# Altium footprint library SparkFun-Connectors.PCBLIB: 305 footprints (part 14 of 20)
Each footprint in its own frame and in the unit in brackets; x right, y up, seen from the top. Pads: shape width x height; smd on the part's side, far side on the other; paste and mask are expansions set on the pad; w line width, h text height; cw(c..) or ccw(c..) is an arc to the next point about the centre after c.
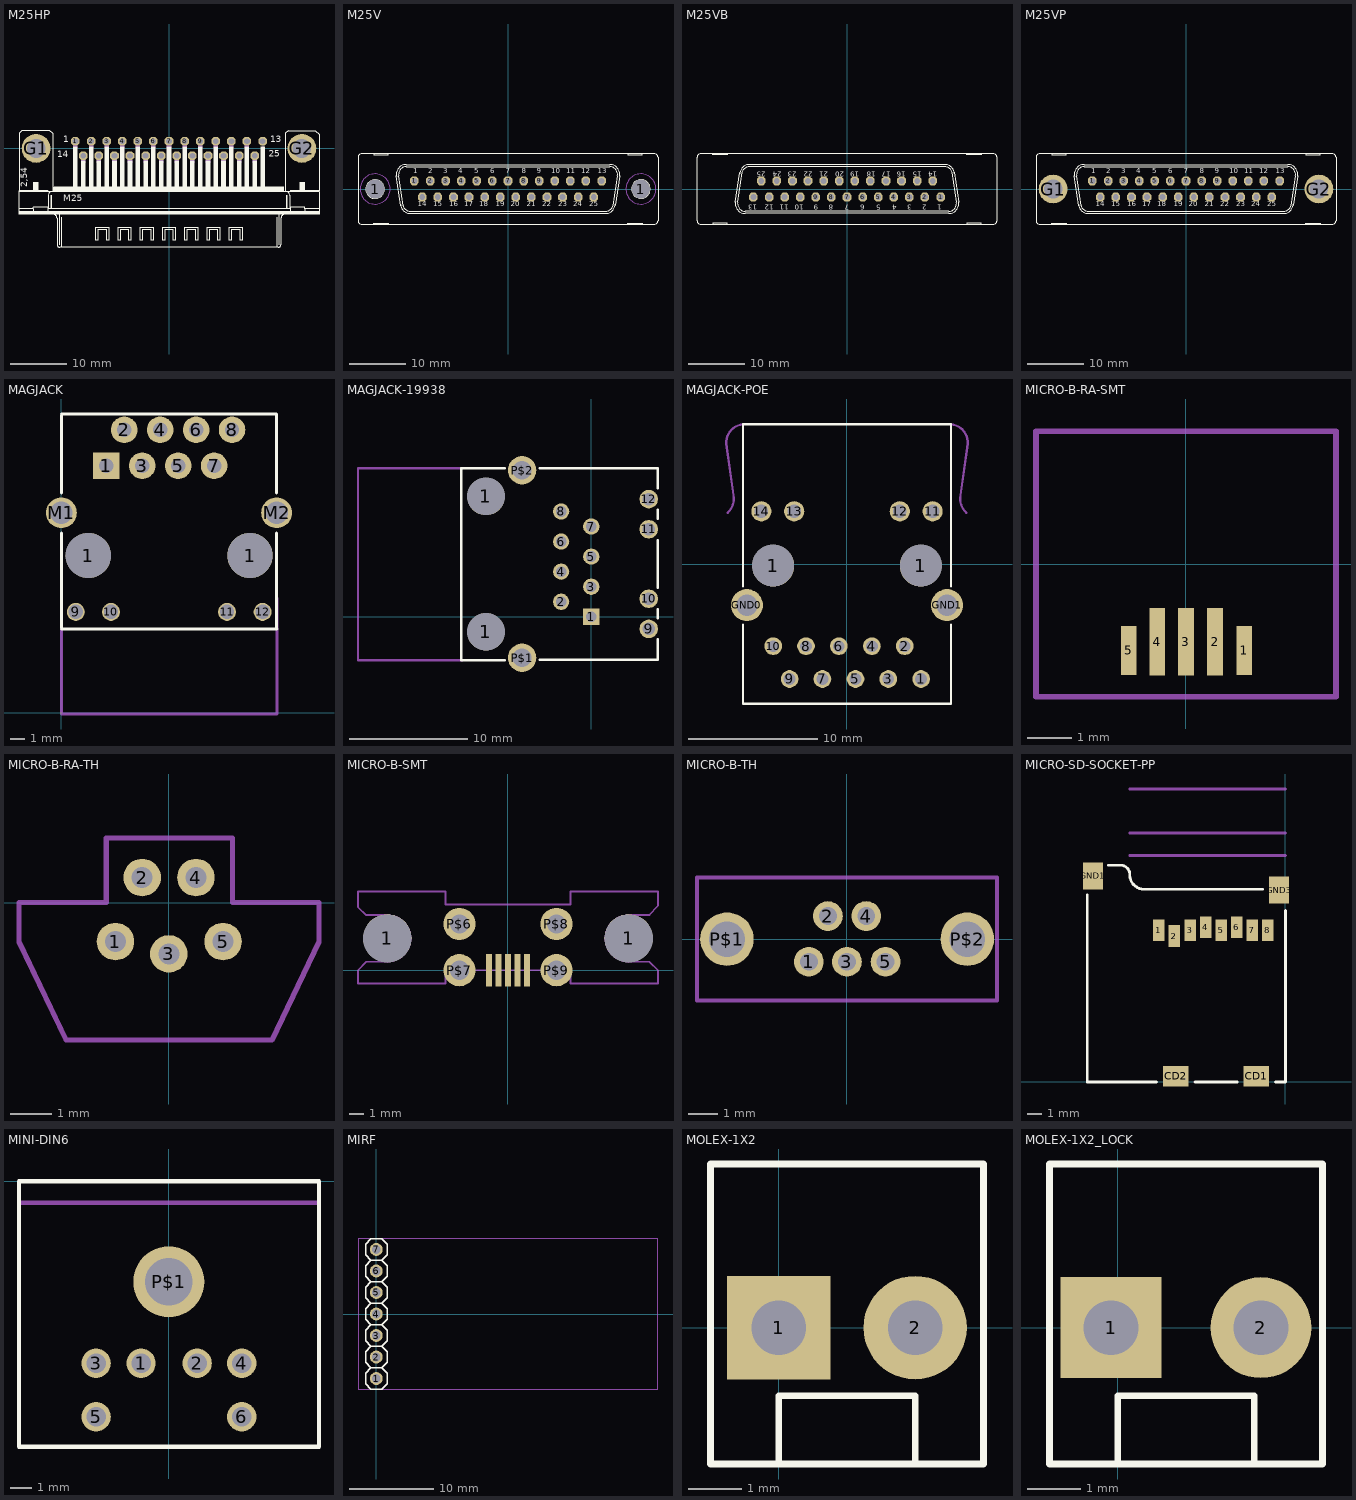
[diagram p13: the footprints below, top view; thin cyan lines are the x and y axes]

## M25HP [mil]
pads (27):
  oct 60x60 hole 40: 1(-652,50) 2(-543,50) 3(-435,50) 4(-326,50) 5(-217,50) 6(-109,50) 7(0,50) 8(109,50) 9(217,50) 10(326,50) 11(435,50) 12(543,50) 13(652,50) 14(-598,-50) 15(-489,-50) 16(-380,-50) 17(-272,-50) 18(-163,-50) 19(-54,-50) 20(54,-50) 21(163,-50) 22(272,-50) 23(380,-50) 24(489,-50) 25(598,-50)
  round 200 hole 130: G1(-926,0) G2(926,0)
Top Overlay:
  drawing of 161 lines, arcs and shapes, not listed
  text "1" at -735,25 h77.5
  text "13" at 705,25 h77.5
  text "14" at -780,-80 h77.5
  text "25" at 695,-75 h77.5
  text "2,54" at -970,-270 h77.5
  text "M25" at -735,-385 h77.5
Mechanical 16:
  lines w6: 652,5 652,45
  lines w32: -652,5 -652,45 ; -598,-94 -598,-54 ; -543,5 -543,45 ; -489,-94 -489,-54 ; -435,5 -435,45 ; -380,-94 -380,-54 ; -326,5 -326,45 ; -272,-95 -272,-55 ; -217,5 -217,45 ; -163,-95 -163,-55 ; -109,5 -109,45 ; -54,-95 -54,-55 ; 0,5 0,45 ; 54,-95 54,-55 ; 109,5 109,45 ; 163,-95 163,-55 ; 217,5 217,45 ; 272,-95 272,-55 ; 326,5 326,45 ; 380,-95 380,-55 ; 435,5 435,45 ; 489,-95 489,-55 ; 543,5 543,45 ; 598,-95 598,-55

## M25V [mil]
pads (27):
  round 130 hole 130: 1(-926,0) 1(926,0)
  oct 60x60 hole 40: 1(-652,56) 2(-543,56) 3(-435,56) 4(-326,56) 5(-217,56) 6(-109,56) 7(0,56) 8(109,56) 9(217,56) 10(326,56) 11(435,56) 12(543,56) 13(652,56) 14(-598,-56) 15(-489,-56) 16(-380,-56) 17(-272,-56) 18(-163,-56) 19(-54,-56) 20(54,-56) 21(163,-56) 22(272,-56) 23(380,-56) 24(489,-56) 25(598,-56)
Top Overlay:
  circle w6: c-926,-1 r65
  circle w6: c926,0 r65
  lines w6: -777,92 -746,-116 ; -776.68,89 cw(c-710.14,102.17) -710,170 710,170 cw(c710.29,102.03) 777,89 ; -762,92 -731,-116 ; -761.97,92 cw(c-710.16,102.2) -710,155 710,155 cw(c710.22,102.06) 762,91 731,-115 ; -747.4,-110.99 ccw(c-680,-102) -680,-170 680,-170 ccw(c680.04,-101.94) 748,-105.7 ; -731.3,-115.33 ccw(c-680,-102) -680,-155 680,-155 ccw(c680.23,-101.7) 732,-114.37 ; 747,-113 777,91 ; -935,-245 -935,-240 -835,-240 -835,-245 ; -935,-245 -835,-245 ; -935,-245 -1020,-245 cw(c-1020,-220) -1045,-220 -1045,220 cw(c-1020,220) -1020,245 -935,245 ; -935,245 -935,240 -835,240 -835,245 ; -935,245 -835,245 ; -835,-245 835,-245 ; -835,245 835,245 ; 835,-245 835,-240 935,-240 935,-245 ; 835,-245 935,-245 ; 835,245 835,240 935,240 935,245 ; 835,245 935,245 ; 935,-245 1020,-245 ccw(c1020,-220) 1045,-220 1045,220 ccw(c1020,220) 1020,245 935,245
  text "1" at -660,95 h60.45
  text "2" at -555,95 h60.45
  text "3" at -450,95 h60.45
  text "4" at -345,95 h60.45
  text "5" at -235,95 h60.45
  text "6" at -125,95 h60.45
  text "7" at -15,95 h60.45
  text "8" at 95,95 h60.45
  text "9" at 200,95 h60.45
  text "10" at 300,95 h60.45
  text "11" at 405,95 h60.45
  text "12" at 510,95 h60.45
  text "13" at 625,95 h60.45
  text "14" at -630,-135 h60.45
  text "15" at -520,-135 h60.45
  text "16" at -410,-135 h60.45
  text "17" at -305,-135 h60.45
  text "18" at -200,-135 h60.45
  text "19" at -85,-135 h60.45
  text "20" at 20,-135 h60.45
  text "21" at 130,-135 h60.45
  text "22" at 240,-135 h60.45
  text "23" at 350,-135 h60.45
  text "24" at 455,-135 h60.45
  text "25" at 565,-135 h60.45
Mechanical 9:
  circle w0: c926,0 r105
  circle w0: c-926,0 r105
Mechanical 10:
  circle w0: c926,0 r105
  circle w0: c-926,0 r105
Mechanical 16:
  circle w16: c-109,56 r10
  circle w16: c-163,-56 r10
  circle w16: c-217,56 r10
  circle w16: c0,56 r10
  circle w16: c-54,-56 r10
  circle w16: c54,-56 r10
  circle w16: c109,56 r10
  circle w16: c217,56 r10
  circle w16: c163,-56 r10
  circle w16: c272,-56 r10
  circle w16: c326,56 r10
  circle w16: c380,-56 r10
  circle w16: c435,56 r10
  circle w16: c489,-56 r10
  circle w16: c543,56 r10
  circle w16: c652,56 r10
  circle w16: c598,-56 r10
  circle w16: c-326,56 r10
  circle w16: c-272,-56 r10
  circle w16: c-380,-56 r10
  circle w16: c-435,56 r10
  circle w16: c-543,56 r10
  circle w16: c-652,56 r10
  circle w16: c-489,-56 r10
  circle w16: c-598,-56 r10

## M25VB [mil]
pads (25):
  oct 60x60 hole 40: 1(652,-56) 2(543,-56) 3(435,-56) 4(326,-56) 5(217,-56) 6(109,-56) 7(0,-56) 8(-109,-56) 9(-217,-56) 10(-326,-56) 11(-435,-56) 12(-543,-56) 13(-652,-56) 14(598,56) 15(489,56) 16(380,56) 17(272,56) 18(163,56) 19(54,56) 20(-54,56) 21(-163,56) 22(-272,56) 23(-380,56) 24(-489,56) 25(-598,56)
Top Overlay:
  lines w6: -777,-91 -747,113 ; -776.69,-88.67 ccw(c-710,-101.99) -710,-170 710,-170 ccw(c710.16,-101.87) 777,-88.67 ; -762,-91 -731,115 ; -761.79,-90.7 ccw(c-710,-101.99) -710,-155 710,-155 ccw(c710.01,-101.99) 762,-91.61 ; -747.89,106 cw(c-680.14,102.15) -680,170 680,170 cw(c680.3,101.66) 748,111 ; -731.52,115 cw(c-680.39,102.31) -680,155 680,155 cw(c680.78,101.88) 732,116 ; 731,116 762,-92 ; 746,116 777,-92 ; -935,-245 -1020,-245 cw(c-1020,-220) -1045,-220 -1045,220 cw(c-1020,220) -1020,245 -935,245 ; -935,-245 -935,-240 -835,-240 -835,-245 ; -935,-245 -835,-245 ; -935,245 -835,245 ; -935,245 -935,240 -835,240 -835,245 ; -835,-245 835,-245 ; -835,245 835,245 ; 835,-245 835,-240 935,-240 935,-245 ; 835,-245 935,-245 ; 835,245 935,245 ; 835,245 835,240 935,240 935,245 ; 935,-245 1020,-245 ccw(c1020,-220) 1045,-220 1045,220 ccw(c1020,220) 1020,245 935,245
  text "1" at 660,-95 h60.45
  text "2" at 555,-95 h60.45
  text "3" at 450,-95 h60.45
  text "4" at 345,-95 h60.45
  text "5" at 235,-95 h60.45
  text "6" at 125,-95 h60.45
  text "7" at 15,-95 h60.45
  text "8" at -95,-95 h60.45
  text "9" at -200,-95 h60.45
  text "10" at -300,-95 h60.45
  text "11" at -405,-95 h60.45
  text "12" at -510,-95 h60.45
  text "13" at -625,-95 h60.45
  text "14" at 630,135 h60.45
  text "15" at 520,135 h60.45
  text "16" at 410,135 h60.45
  text "17" at 305,135 h60.45
  text "18" at 200,135 h60.45
  text "19" at 85,135 h60.45
  text "20" at -20,135 h60.45
  text "21" at -130,135 h60.45
  text "22" at -240,135 h60.45
  text "23" at -350,135 h60.45
  text "24" at -455,135 h60.45
  text "25" at -565,135 h60.45
Mechanical 16:
  circle w16: c109,-56 r10
  circle w16: c163,56 r10
  circle w16: c217,-56 r10
  circle w16: c0,-56 r10
  circle w16: c54,56 r10
  circle w16: c-54,56 r10
  circle w16: c-109,-56 r10
  circle w16: c-217,-56 r10
  circle w16: c-163,56 r10
  circle w16: c-272,56 r10
  circle w16: c-326,-56 r10
  circle w16: c-380,56 r10
  circle w16: c-435,-56 r10
  circle w16: c-489,56 r10
  circle w16: c-543,-56 r10
  circle w16: c-652,-56 r10
  circle w16: c-598,56 r10
  circle w16: c326,-56 r10
  circle w16: c272,56 r10
  circle w16: c380,56 r10
  circle w16: c435,-56 r10
  circle w16: c543,-56 r10
  circle w16: c652,-56 r10
  circle w16: c489,56 r10
  circle w16: c598,56 r10

## M25VP [mil]
pads (27):
  oct 60x60 hole 40: 1(-652,56) 2(-543,56) 3(-435,56) 4(-326,56) 5(-217,56) 6(-109,56) 7(0,56) 8(109,56) 9(217,56) 10(326,56) 11(435,56) 12(543,56) 13(652,56) 14(-598,-56) 15(-489,-56) 16(-380,-56) 17(-272,-56) 18(-163,-56) 19(-54,-56) 20(54,-56) 21(163,-56) 22(272,-56) 23(380,-56) 24(489,-56) 25(598,-56)
  round 200 hole 130: G1(-926,0) G2(926,0)
Top Overlay:
  circle w6: c-926,-1 r65
  circle w6: c926,0 r65
  lines w6: -777,92 -746,-116 ; -776.68,89 cw(c-710.14,102.17) -710,170 710,170 cw(c710.29,102.03) 777,89 ; -762,92 -731,-116 ; -761.97,92 cw(c-710.16,102.2) -710,155 710,155 cw(c710.22,102.06) 762,91 731,-115 ; -747.4,-110.99 ccw(c-680,-102) -680,-170 680,-170 ccw(c680.04,-101.94) 748,-105.7 ; -731.3,-115.33 ccw(c-680,-102) -680,-155 680,-155 ccw(c680.23,-101.7) 732,-114.37 ; 747,-113 777,91 ; -935,-245 -935,-240 -835,-240 -835,-245 ; -935,-245 -835,-245 ; -935,-245 -1020,-245 cw(c-1020,-220) -1045,-220 -1045,220 cw(c-1020,220) -1020,245 -935,245 ; -935,245 -935,240 -835,240 -835,245 ; -935,245 -835,245 ; -835,-245 835,-245 ; -835,245 835,245 ; 835,-245 835,-240 935,-240 935,-245 ; 835,-245 935,-245 ; 835,245 835,240 935,240 935,245 ; 835,245 935,245 ; 935,-245 1020,-245 ccw(c1020,-220) 1045,-220 1045,220 ccw(c1020,220) 1020,245 935,245
  text "1" at -660,95 h60.45
  text "2" at -555,95 h60.45
  text "3" at -450,95 h60.45
  text "4" at -345,95 h60.45
  text "5" at -235,95 h60.45
  text "6" at -125,95 h60.45
  text "7" at -15,95 h60.45
  text "8" at 95,95 h60.45
  text "9" at 200,95 h60.45
  text "10" at 300,95 h60.45
  text "11" at 405,95 h60.45
  text "12" at 510,95 h60.45
  text "13" at 625,95 h60.45
  text "14" at -630,-135 h60.45
  text "15" at -520,-135 h60.45
  text "16" at -410,-135 h60.45
  text "17" at -305,-135 h60.45
  text "18" at -200,-135 h60.45
  text "19" at -85,-135 h60.45
  text "20" at 20,-135 h60.45
  text "21" at 130,-135 h60.45
  text "22" at 240,-135 h60.45
  text "23" at 350,-135 h60.45
  text "24" at 455,-135 h60.45
  text "25" at 565,-135 h60.45
Mechanical 16:
  circle w16: c-109,56 r10
  circle w16: c-163,-56 r10
  circle w16: c-217,56 r10
  circle w16: c0,56 r10
  circle w16: c-54,-56 r10
  circle w16: c54,-56 r10
  circle w16: c109,56 r10
  circle w16: c217,56 r10
  circle w16: c163,-56 r10
  circle w16: c272,-56 r10
  circle w16: c326,56 r10
  circle w16: c380,-56 r10
  circle w16: c435,56 r10
  circle w16: c489,-56 r10
  circle w16: c543,56 r10
  circle w16: c652,56 r10
  circle w16: c598,-56 r10
  circle w16: c-326,56 r10
  circle w16: c-272,-56 r10
  circle w16: c-380,-56 r10
  circle w16: c-435,56 r10
  circle w16: c-543,56 r10
  circle w16: c-652,56 r10
  circle w16: c-489,-56 r10
  circle w16: c-598,-56 r10

## MAGJACK [mil]
pads (16):
  round 126 hole 126: 1(75,437) 1(525,437)
  rect 74x74 hole 40: 1(125,687)
  round 74 hole 40: 2(175,787) 3(225,687) 4(275,787) 5(325,687) 6(375,787) 7(425,687) 8(475,787)
  round 50 hole 40: 9(40,280) 10(138,280) 11(461,280) 12(560,280)
  round 86 hole 63: M1(0,556) M2(599,556)
Top Overlay:
  lines w8: 0,233 600,233 ; 0,237 0,500 ; 0,611 0,827 ; 0,831 597,831 ; 599,233 599,500 ; 599,611 599,831
Mechanical 16:
  lines w8: 0,319 0,-4.13 600,-4.13 600,319

## MAGJACK-19938 [mil]
pads (16):
  round 125 hole 125: 1(-350,-50) 1(-350,400)
  rect 54x54 hole 36: 1(0,0)
  round 54 hole 36: 2(-100,50) 3(0,100) 4(-100,150) 5(0,200) 6(-100,250) 7(0,300) 8(-100,350)
  round 61.5 hole 41: 9(191,-40.16) 10(191,60) 11(191,291) 12(191,391)
  round 94.5 hole 63: P$1(-229.92,-136.02) P$2(-229.92,487)
Top Overlay:
  lines w8: -288.19,-143.9 -432.68,-143.9 -432.68,494 -288.19,494 ; -171.26,-142.13 221,-142.13 221,-75 ; -171.26,494 221,494 221,427 ; 221,-5.71 221,25 ; 221,97 221,254 ; 221,325 221,356
Mechanical 16:
  lines w8: -429.13,-143.9 -775.2,-143.9 -775.2,494 -429.13,494

## MAGJACK-POE [mil]
pads (18):
  round 128 hole 128: 1(-225,-4.72) 1(225,-4.72)
  round 54 hole 36: 1(226,-350) 2(176,-250) 3(126,-350) 4(76,-250) 5(26,-350) 6(-24.8,-250) 7(-74.8,-350) 8(-124.8,-250) 9(-174.8,-350) 10(-224.8,-250)
  round 61.5 hole 41: 11(261,161) 12(161,161) 13(-160.83,161) 14(-260.83,161)
  round 97.5 hole 65: GND0(-304.92,-124.8) GND1(305,-124.8)
Top Overlay:
  lines w7: -316.93,-185.04 -316.93,-425.2 317,-425.2 317,-185.04 ; -316.93,-66.93 -316.93,426 317,426 317,-66.93
Mechanical 16:
  lines w7: -363.78,157 ccw(c-400.98,199.03) -345.94,210 -367.72,367 cw(c-312.82,371.1) -316.93,426 ; 317,426 cw(c313,371) 368,367 346,210 ccw(c401.13,199.17) 364,157

## MICRO-B-RA-SMT [mil]
pads (5):
  rect 14x44 smd: 1(52,-76.77) 5(-51.18,-76.77)
  rect 14x60 smd: 2(26,-68.9) 3(0,-68.9) 4(-25.59,-68.9)
Mechanical 16:
  lines w5: -133.86,-118.11 134,-118.11 134,119 -133.86,119 -133.86,-118.11

## MICRO-B-RA-TH [mil]
pads (5):
  round 36 hole 20: 1(-51.18,-37.4) 2(-25.59,24) 3(0,-49.21) 4(26,24) 5(52,-37.4)
Mechanical 16:
  lines w5: -143.7,-37.4 -143.7,0 -60.04,0 -60.04,62 61,62 61,0 144,0 144,-37.4 99,-131.89 -98.43,-131.89 -143.7,-37.4

## MICRO-B-SMT [mil]
pads (11):
  round 130 hole 130: 1(-325.79,86) 1(326,86)
  rect 16x87 smd: 1(-51.18,0) 2(-25.59,0) 3(0,0) 4(26,0) 5(52,0)
  round 87 hole 52: P$6(-130.91,125) P$7(-130.91,0) P$8(131,125) P$9(131,0)
Mechanical 16:
  lines w5: -404.53,-35.43 -404.53,0 -381.89,23 -325.79,23 ccw(c-325.79,86) -325.79,149 -381.89,149 -404.53,170 -404.53,212 -168.31,212 -168.31,177 169,177 169,212 405,212 405,174 382,149 326,149 ccw(c326,86) 326,23 382,23 405,0 405,-35.43 169,-35.43 169,0 -168.31,0 -168.31,-35.43 -404.53,-35.43

## MICRO-B-TH [mil]
pads (7):
  round 40 hole 24: 1(-51.18,-30.51) 2(-25.59,31) 3(0,-30.51) 4(26,31) 5(52,-30.51)
  round 72 hole 48: P$1(-161.42,0) P$2(162,0)
Mechanical 16:
  lines w5: -201.77,-82.68 202,-82.68 202,83 -201.77,83 -201.77,-82.68

## MICRO-SD-SOCKET-PP [mil]
pads (12):
  rect 32x60 smd: 1(-351.97,422) 2(-308.66,406) 3(-265.35,422) 4(-222.05,430) 5(-178.74,422) 6(-135.43,430) 7(-92.13,422) 8(-48.82,422)
  rect 71x56 smd: CD1(-80.71,16) CD2(-305.12,16)
  rect 56x75 smd: GND1(-535.43,573) GND3(-17.72,534)
Top Overlay:
  lines w8: -551.18,520 -551.18,0 -358.27,0 ; -492.13,603 -460.63,603 cw(c-458.85,577.19) -433.07,575 ccw(c-392.91,576.17) -393.7,536 -62.99,536 ; -251.97,0 -133.86,0 ; -27.56,0 0,0 0,477
Mechanical 16:
  lines w8: -433.07,630 0,630 ; -433.07,693 0,693 ; -433.07,815 0,815

## MINI-DIN6 [mil]
pads (7):
  round 54 hole 36: 1(-51.18,-334.65) 2(52,-334.65) 3(-133.86,-334.65) 4(134,-334.65) 5(-133.86,-433.07) 6(134,-433.07)
  round 130.5 hole 87: P$1(0,-185.04)
Top Overlay:
  lines w8: -275.59,-488.19 -275.59,0 276,0 276,-488.19 -275.59,-488.19
Mechanical 16:
  lines w8: -275.59,-39.37 276,-39.37

## MIRF [mil]
pads (7):
  round 60 hole 40: 1(0,-300) 2(0,-200) 3(0,-100) 4(0,0) 5(0,100) 6(0,200) 7(0,300)
Top Overlay:
  lines w6: -25,-250 -50,-275 -50,-325 -25,-350 25,-350 50,-325 50,-275 25,-250 ; -25,-250 25,-250 ; -25,-250 -50,-225 -50,-175 -25,-150 ; -25,-150 -50,-125 -50,-75 -25,-50 ; -25,-150 25,-150 ; -25,-50 25,-50 ; -25,-50 -50,-25 -50,25 -25,50 ; -25,50 25,50 ; -25,50 -50,75 -50,125 -25,150 ; -25,150 -50,175 -50,225 -25,250 ; -25,150 25,150 ; -25,250 25,250 ; -25,250 -50,275 -50,325 -25,350 25,350 50,325 50,275 25,250 ; 25,-250 50,-225 50,-175 25,-150 ; 25,-150 50,-125 50,-75 25,-50 ; 25,-50 50,-25 50,25 25,50 ; 25,50 50,75 50,125 25,150 ; 25,150 50,175 50,225 25,250
Mechanical 2:
  text "3.3V" at 100,300 h37.2
  text "CE" at 100,200 h37.2
  text "CS" at 100,100 h37.2
  text "DR1" at 100,0 h37.2
  text "CLK1" at 100,-100 h37.2
  text "DATA" at 100,-200 h37.2
  text "GND" at 100,-300 h37.2
Mechanical 16:
  region: 10,190 10,210 -10,210 -10,190
  region: 10,90 10,110 -10,110 -10,90
  region: 10,-10 10,10 -10,10 -10,-10
  region: 10,-110 10,-90 -10,-90 -10,-110
  region: 10,-210 10,-190 -10,-190 -10,-210
  region: 10,-310 10,-290 -10,-290 -10,-310
  region: 10,290 10,310 -10,310 -10,290
  lines w5: -85,-350 -85,350 1310,350 1310,-350 -85,-350

## MOLEX-1X2 [mil]
pads (2):
  rect 76x76 hole 40: 1(0,0)
  round 76 hole 40: 2(100,0)
Top Overlay:
  lines w5: 0,-100 100,-100 ; 0,-100 -50,-100 -50,120 150,120 150,-100 100,-100 ; 0,-100 0,-50 100,-50 100,-100

## MOLEX-1X2_LOCK [mil]
pads (2):
  rect 74x74 hole 40: 1(-5,0)
  round 74 hole 40: 2(105,0)
Top Overlay:
  lines w5: 0,-100 100,-100 ; 0,-100 -50,-100 -50,120 150,120 150,-100 100,-100 ; 0,-100 0,-50 100,-50 100,-100
Mechanical 16:
  rectangle: -11.5,-11.5 12,12
  rectangle: 89,-11.5 112,12